# Altium footprint library TE_1551920-2.PcbLib: 1 footprints
Each footprint in its own frame and in the unit in brackets; x right, y up, seen from the top. Pads: shape width x height; smd on the part's side, far side on the other; paste and mask are expansions set on the pad; w line width, h text height; cw(c..) or ccw(c..) is an arc to the next point about the centre after c.
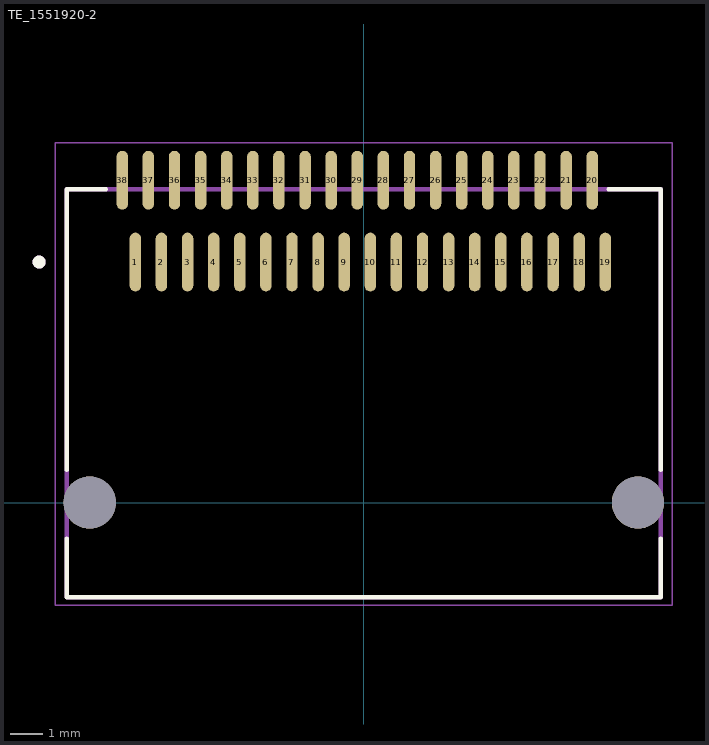
[diagram p0: the footprint, top view; thin cyan lines are the x and y axes]

## TE_1551920-2 [mm]
height 6.1
pads (40):
  oval 0.35x1.8 smd: 1(-7,7.37) 2(-6.2,7.37) 3(-5.4,7.37) 4(-4.6,7.37) 5(-3.8,7.37) 6(-3,7.37) 7(-2.2,7.37) 8(-1.4,7.37) 9(-0.6,7.37) 10(0.2,7.37) 11(1,7.37) 12(1.8,7.37) 13(2.6,7.37) 14(3.4,7.37) 15(4.2,7.37) 16(5,7.37) 17(5.8,7.37) 18(6.6,7.37) 19(7.4,7.37) 20(7,9.88) 21(6.2,9.88) 22(5.4,9.88) 23(4.6,9.88) 24(3.8,9.88) 25(3,9.88) 26(2.2,9.88) 27(1.4,9.88) 28(0.6,9.88) 29(-0.2,9.88) 30(-1,9.88) 31(-1.8,9.88) 32(-2.6,9.88) 33(-3.4,9.88) 34(-4.2,9.88) 35(-5,9.88) 36(-5.8,9.88) 37(-6.6,9.88) 38(-7.4,9.88)
  round 1.6 hole 1.6 unplated: ""(-8.4,0) ""(8.4,0)
Top Overlay:
  circle w0.2: c-9.95,7.37 r0.1
  lines w0.127: -9.1,-1.1 -9.1,-2.9 9.1,-2.9 9.1,-1.1 ; -9.1,1 -9.1,9.6 -7.895,9.6 ; 7.495,9.6 9.1,9.6 9.1,1
Mechanical 13:
  circle w0.2: c-9.95,7.37 r0.1
  lines w0.127: -9.1,-2.9 -9.1,9.6 9.1,9.6 9.1,-2.9 -9.1,-2.9
Mechanical 15:
  lines w0.05: -9.45,-3.15 -9.45,11.03 9.45,11.03 9.45,-3.15 -9.45,-3.15
3D body "step_temp.STEP": height 6.1, standoff -0.95, extent -9.1,-2.9 9.1,10.41